# EAGLE library part ADS8584 (library texas-adcs)
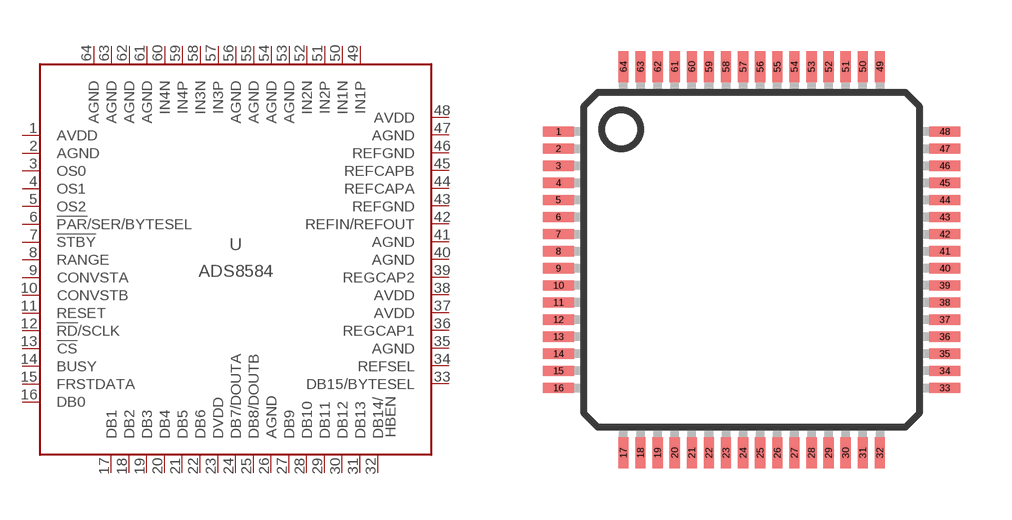
[diagram p0: symbol with the pads of LQFP-ST-64-2; footprint LQFP-ST-64-2]

Designator prefix -

## ADS8584S  [LQFP-ST-64-2]
1  AVDD  in
2  AGND  in
3  OS0  in
4  OS1  in
5  OS2  in
6  !PAR!/SER/BYTESEL  in
7  !STBY!  in
8  RANGE  in
9  CONVSTA  in
10  CONVSTB  in
11  RESET  in
12  !RD!/SCLK  in
13  !CS!  in
14  BUSY  in
15  FRSTDATA  in
16  DB0  in
17  DB1  in
18  DB2  in
19  DB3  in
20  DB4  in
21  DB5  in
22  DB6  in
23  DVDD  in
24  DB7/DOUTA  in
25  DB8/DOUTB  in
26  AGND  in
27  DB9  in
28  DB10  in
29  DB11  in
30  DB12  in
31  DB13  in
32  DB14/  in
33  DB15/BYTESEL  in
34  REFSEL  in
35  AGND  in
36  REGCAP1  in
37  AVDD  in
38  AVDD  in
39  REGCAP2  in
40  AGND  in
41  AGND  in
42  REFIN/REFOUT  in
43  REFGND  in
44  REFCAPA  in
45  REFCAPB  in
46  REFGND  in
47  AGND  in
48  AVDD  in
49  IN1P  in
50  IN1N  in
51  IN2P  in
52  IN2N  in
53  AGND  in
54  AGND  in
55  AGND  in
56  AGND  in
57  IN3P  in
58  IN3N  in
59  IN4P  in
60  IN4N  in
61  AGND  in
62  AGND  in
63  AGND  in
64  AGND  in

## Footprint LQFP-ST-64-2 (pad centres in mm)
64-Lead Low Profile Quad Flat Package [LQFP] (ST-64-2) COMPLIANT TO JEDEC STANDARDS MS-026-BCD Source: http://www.analog.com/UploadedFiles/Data_Sheets/288945048AD7C7019_20_1_2_4_5_6_7_0.pdf
smd 0.9 x 0.3: 1 -5.65,3.75; 2 -5.65,3.25; 3 -5.65,2.75; 4 -5.65,2.25; 5 -5.65,1.75; 6 -5.65,1.25; 7 -5.65,0.75; 8 -5.65,0.25; 9 -5.65,-0.25; 10 -5.65,-0.75; 11 -5.65,-1.25; 12 -5.65,-1.75; 13 -5.65,-2.25; 14 -5.65,-2.75; 15 -5.65,-3.25; 16 -5.65,-3.75; 33 5.65,-3.75; 34 5.65,-3.25; 35 5.65,-2.75; 36 5.65,-2.25; 37 5.65,-1.75; 38 5.65,-1.25; 39 5.65,-0.75; 40 5.65,-0.25; 41 5.65,0.25; 42 5.65,0.75; 43 5.65,1.25; 44 5.65,1.75; 45 5.65,2.25; 46 5.65,2.75; 47 5.65,3.25; 48 5.65,3.75
smd 0.3 x 0.9: 17 -3.75,-5.65; 18 -3.25,-5.65; 19 -2.75,-5.65; 20 -2.25,-5.65; 21 -1.75,-5.65; 22 -1.25,-5.65; 23 -0.75,-5.65; 24 -0.25,-5.65; 25 0.25,-5.65; 26 0.75,-5.65; 27 1.25,-5.65; 28 1.75,-5.65; 29 2.25,-5.65; 30 2.75,-5.65; 31 3.25,-5.65; 32 3.75,-5.65; 49 3.75,5.65; 50 3.25,5.65; 51 2.75,5.65; 52 2.25,5.65; 53 1.75,5.65; 54 1.25,5.65; 55 0.75,5.65; 56 0.25,5.65; 57 -0.25,5.65; 58 -0.75,5.65; 59 -1.25,5.65; 60 -1.75,5.65; 61 -2.25,5.65; 62 -2.75,5.65; 63 -3.25,5.65; 64 -3.75,5.65